# EAGLE library part HMC430LP4ETR (library HCM430LP4)
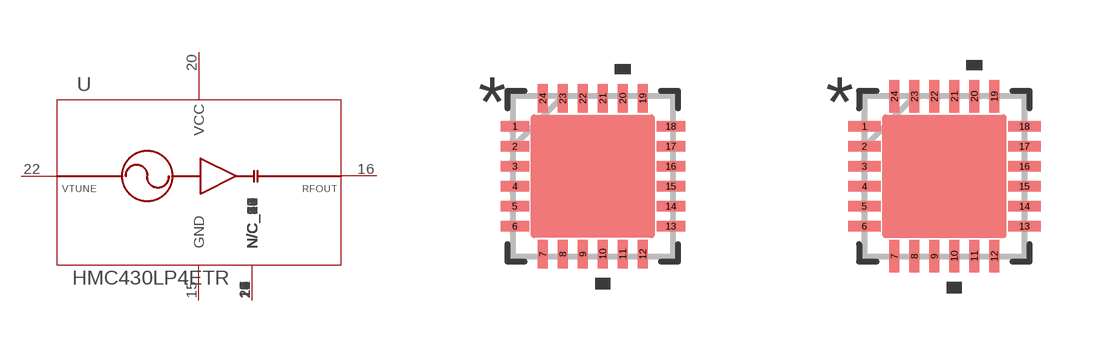
[diagram p0: symbol with the pads of SMT_24; footprints SMT_24, SMT_24-M]

Designator prefix U

## HMC430LP4ETR (MANUFACTURER_PART_NUMBER: HMC430LP4ETR; VENDOR: Analog Devices Inc)  [SMT_24]
1  N/C_2  nc
2  N/C_3  nc
3  N/C_4  nc
4  N/C_5  nc
5  N/C_6  nc
6  N/C_7  nc
7  N/C_8  nc
8  N/C_9  nc
9  N/C_10  nc
10  N/C_11  nc
11  N/C_12  nc
12  N/C_13  nc
13  N/C_14  nc
14  N/C_15  nc
15  GND  pas
16  RFOUT  out
17  N/C_16  nc
18  N/C_17  nc
19  N/C_18  nc
20  VCC  pwr
21  N/C_19  nc
22  VTUNE  pas
23  N/C_20  nc
24  N/C  nc

## HMC430LP4ETRSMT_24-M (MANUFACTURER_PART_NUMBER: HMC430LP4ETR; VENDOR: Analog Devices Inc)  [SMT_24-M]
1  N/C  nc
2  N/C_2  nc
3  N/C_3  nc
4  N/C_4  nc
5  N/C_5  nc
6  N/C_6  nc
7  N/C_7  nc
8  N/C_8  nc
9  N/C_9  nc
10  N/C_10  nc
11  N/C_11  nc
12  N/C_12  nc
13  N/C_13  nc
14  N/C_14  nc
15  GND  pas
16  RFOUT  out
17  N/C_15  nc
18  N/C_16  nc
19  N/C_17  nc
20  VCC  pwr
21  N/C_20  nc
22  VTUNE  pas
23  N/C_18  nc
24  N/C_19  nc

## HMC430LP4ETRSMT_24-L (MANUFACTURER_PART_NUMBER: HMC430LP4ETR; VENDOR: Analog Devices Inc)  [SMT_24-L]
1  N/C  nc
2  N/C_2  nc
3  N/C_3  nc
4  N/C_4  nc
5  N/C_5  nc
6  N/C_6  nc
7  N/C_7  nc
8  N/C_8  nc
9  N/C_9  nc
10  N/C_10  nc
11  N/C_11  nc
12  N/C_12  nc
13  N/C_13  nc
14  N/C_14  nc
15  GND  pas
16  RFOUT  out
17  N/C_15  nc
18  N/C_16  nc
19  N/C_17  nc
20  VCC  pwr
21  N/C_18  nc
22  VTUNE  pas
23  N/C_19  nc
24  N/C_20  nc

## Footprint SMT_24 (pad centres in mm)
smd 0.711 x 0.254: 1 -1.949,1.25; 2 -1.949,0.75; 3 -1.949,0.25; 4 -1.949,-0.25; 5 -1.949,-0.75; 6 -1.949,-1.25; 13 1.949,-1.25; 14 1.949,-0.75; 15 1.949,-0.25; 16 1.949,0.25; 17 1.949,0.75; 18 1.949,1.25
smd 0.254 x 0.711: 7 -1.25,-1.949; 8 -0.75,-1.949; 9 -0.25,-1.949; 10 0.25,-1.949; 11 0.75,-1.949; 12 1.25,-1.949; 19 1.25,1.949; 20 0.75,1.949; 21 0.25,1.949; 22 -0.25,1.949; 23 -0.75,1.949; 24 -1.25,1.949

## Footprint SMT_24-M (pad centres in mm)
smd 0.813 x 0.254: 1 -2,1.25; 2 -2,0.75; 3 -2,0.25; 4 -2,-0.25; 5 -2,-0.75; 6 -2,-1.25; 13 2,-1.25; 14 2,-0.75; 15 2,-0.25; 16 2,0.25; 17 2,0.75; 18 2,1.25
smd 0.254 x 0.813: 7 -1.25,-2; 8 -0.75,-2; 9 -0.25,-2; 10 0.25,-2; 11 0.75,-2; 12 1.25,-2; 19 1.25,2; 20 0.75,2; 21 0.25,2; 22 -0.25,2; 23 -0.75,2; 24 -1.25,2

## Footprint SMT_24-L (pad centres in mm)
smd 0.61 x 0.254: 1 -1.898,1.25; 2 -1.898,0.75; 3 -1.898,0.25; 4 -1.898,-0.25; 5 -1.898,-0.75; 6 -1.898,-1.25; 13 1.898,-1.25; 14 1.898,-0.75; 15 1.898,-0.25; 16 1.898,0.25; 17 1.898,0.75; 18 1.898,1.25
smd 0.254 x 0.61: 7 -1.25,-1.898; 8 -0.75,-1.898; 9 -0.25,-1.898; 10 0.25,-1.898; 11 0.75,-1.898; 12 1.25,-1.898; 19 1.25,1.898; 20 0.75,1.898; 21 0.25,1.898; 22 -0.25,1.898; 23 -0.75,1.898; 24 -1.25,1.898